# Altium footprint library Hasel Smart Surface PCB.PcbLib: 11 footprints
Each footprint in its own frame and in the unit in brackets; x right, y up, seen from the top. Pads: shape width x height; smd on the part's side, far side on the other; paste and mask are expansions set on the pad; w line width, h text height; cw(c..) or ccw(c..) is an arc to the next point about the centre after c.
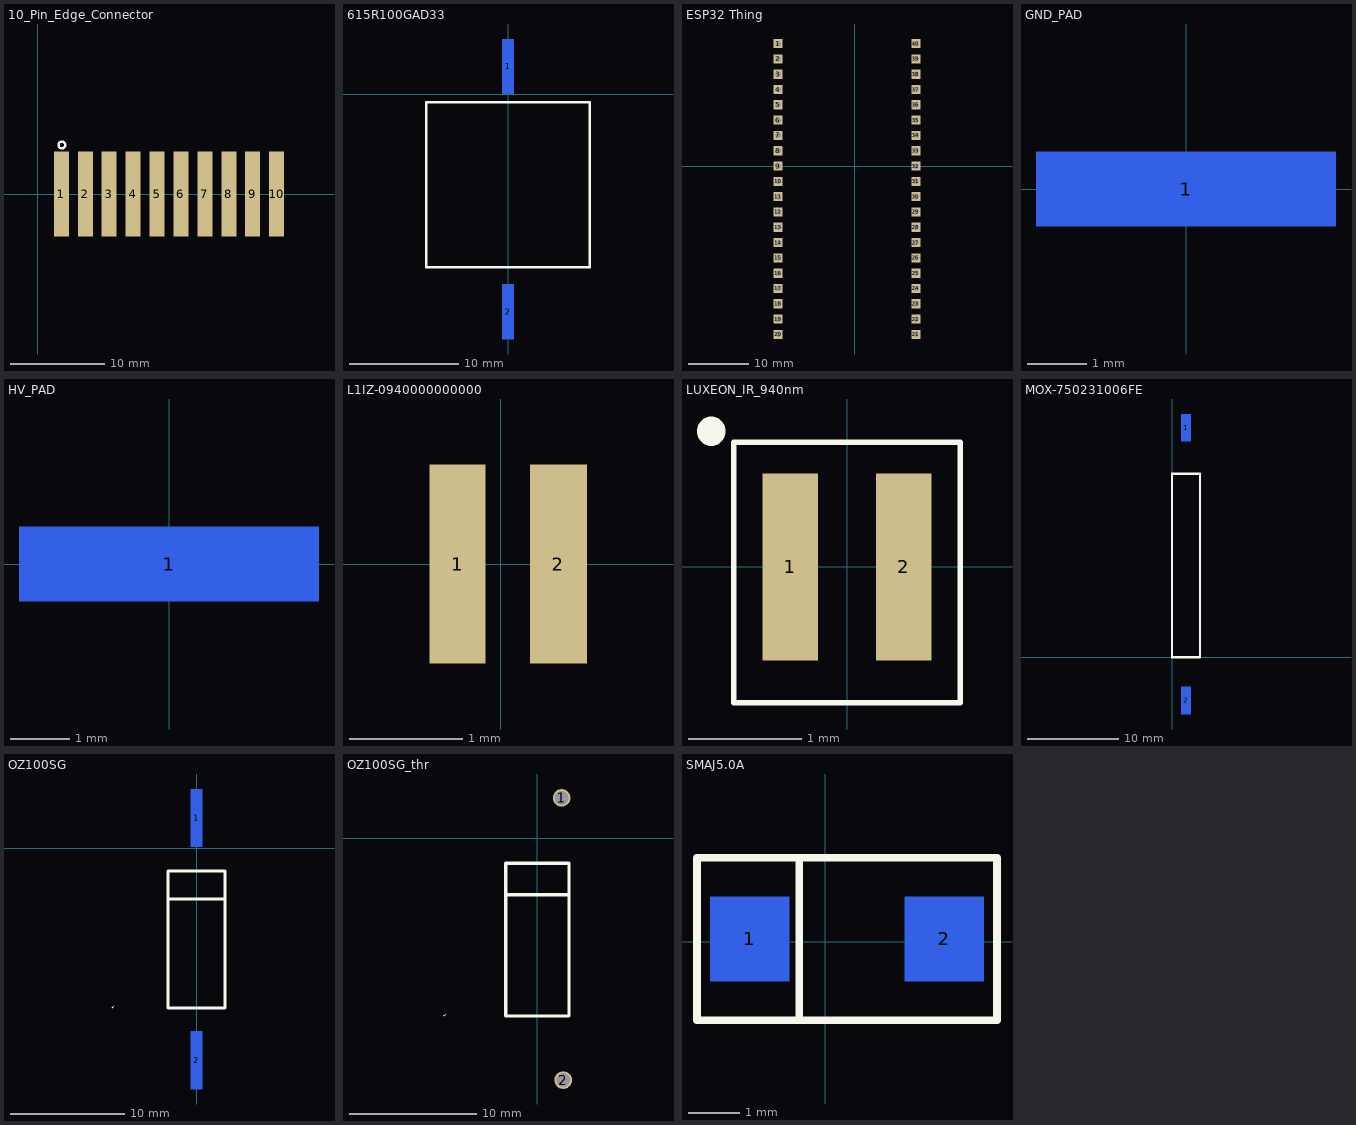
[diagram p0: the footprints below, top view; thin cyan lines are the x and y axes]

## 10_Pin_Edge_Connector [mm]
pads (10):
  rect 1.6x9 smd: 1(2.49,0) 2(5.03,0) 3(7.57,0) 4(10.11,0) 5(12.65,0) 6(15.19,0) 7(17.73,0) 8(20.27,0) 9(22.81,0) 10(25.35,0)
Top Overlay:
  circle w0.254: c2.54,5.207 r0.359

## 615R100GAD33 [mil]
pads (2):
  rect 40x197 smd far side: 1(0,100) 2(0,-785)
Top Overlay:
  lines w10: -295,-625 -295,-30 295,-30 295,-625 -295,-625

## ESP32 Thing [mil]
pads (40):
  rect 60x60 hole 35.43: 1(-500,800) 2(-500,700) 3(-500,600) 4(-500,500) 5(-500,400) 6(-500,300) 7(-500,200) 8(-500,100) 9(-500,0) 10(-500,-100) 11(-500,-200) 12(-500,-300) 13(-500,-400) 14(-500,-500) 15(-500,-600) 16(-500,-700) 17(-500,-800) 18(-500,-900) 19(-500,-1000) 20(-500,-1100) 21(400,-1100) 22(400,-1000) 23(400,-900) 24(400,-800) 25(400,-700) 26(400,-600) 27(400,-500) 28(400,-400) 29(400,-300) 30(400,-200) 31(400,-100) 32(400,0) 33(400,100) 34(400,200) 35(400,300) 36(400,400) 37(400,500) 38(400,600) 39(400,700) 40(400,800)

## GND_PAD [mil]
pads (1):
  rect 200x50 smd far side: 1(0,0)

## HV_PAD [mil]
pads (1):
  rect 200x50 smd far side: 1(0,0)

## L1IZ-0940000000000 [mil]
pads (2):
  rect 19.29x69 smd: 1(-15,0)
  rect 19.92x69 smd: 2(20,0)

## LUXEON_IR_940nm [mm]
pads (2):
  rect 0.49x1.65 all layers, no hole: 1(-0.5,0) 2(0.5,0)
Top Overlay:
  lines w0.051: -1,-1.2 1,-1.2 1,1.1 -1,1.1 -1,-1.2
  lines w0.254: -1.2,1.196 ccw(c-1.251,1.2) -1.2,1.2

## MOX-750231006FE [mil]
pads (2):
  rect 40x118 smd far side: 1(60,985) 2(60,-185)
Top Overlay:
  lines w10: 118,787 0,787 0,0 120,0 120,787

## OZ100SG [mil]
pads (2):
  rect 40x200 smd far side: 1(0,105) 2(0,-730)
Top Overlay:
  lines w1: -290,-550 -285,-545
  lines w10: -98,-175 98,-175 ; -98,-551 -98,-78 98,-78 98,-551 -98,-551

## OZ100SG_thr [mil]
pads (2):
  round 55 hole 43: 1(75,125) 2(80,-750)
Top Overlay:
  lines w1: -290,-550 -285,-545
  lines w10: -98,-175 98,-175 ; -98,-551 -98,-78 98,-78 98,-551 -98,-551

## SMAJ5.0A [mm]
pads (2):
  rect 1.555x1.67 smd far side: 1(-1.483,0.051) 2(2.347,0.051)
Top Overlay:
  lines w0.152: -0.508,-1.549 -0.507,1.626 ; -2.518,-1.549 -2.518,1.651 3.382,1.651 3.382,-1.549 -2.518,-1.549
3D body "DO-214AC.STEP": height 2.36, standoff 0.08, extent -2.286,-1.346 3.201,1.448